# EAGLE library part PROMICRO (library MCU)
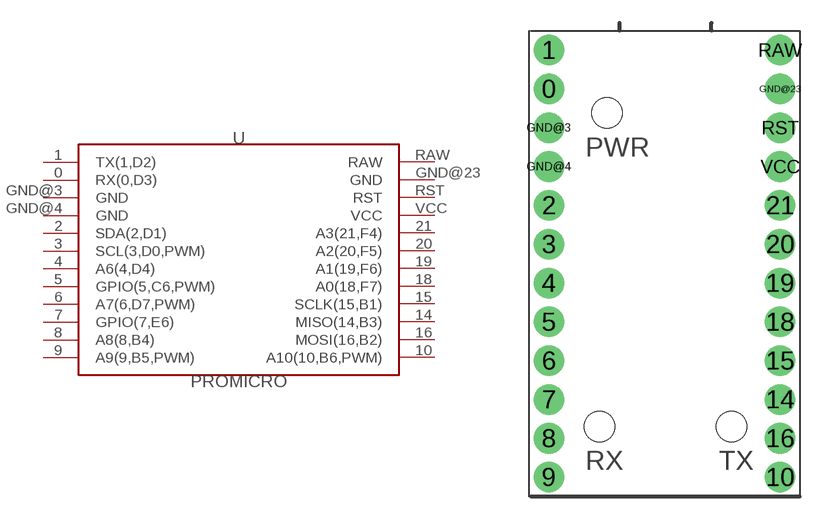
[diagram p9: symbol with the pads of PROMICRO; footprint PROMICRO]

Designator prefix U

## PROMICRO  [PROMICRO]
0  RX(0,D3)
1  TX(1,D2)
2  SDA(2,D1)
3  SCL(3,D0,PWM)
4  A6(4,D4)
5  GPIO(5,C6,PWM)
6  A7(6,D7,PWM)
7  GPIO(7,E6)
8  A8(8,B4)
9  A9(9,B5,PWM)
10  A10(10,B6,PWM)
14  MISO(14,B3)
15  SCLK(15,B1)
16  MOSI(16,B2)
18  A0(18,F7)
19  A1(19,F6)
20  A2(20,F5)
21  A3(21,F4)
GND@3  GND
GND@4  GND
GND@23  GND
RAW  RAW
RST  RST
VCC  VCC

## Footprint PROMICRO (pad centres in mm)
5 pin 0.1" header
drill 1 pad 2: 0 -7.62,11.43; 1 -7.62,13.97; 2 -7.62,3.81; 3 -7.62,1.27; 4 -7.62,-1.27; 5 -7.62,-3.81; 6 -7.62,-6.35; 7 -7.62,-8.89; 8 -7.62,-11.43; 9 -7.62,-13.97; 10 7.5,-13.97; 14 7.5,-8.89; 15 7.5,-6.35; 16 7.5,-11.43; 18 7.5,-3.81; 19 7.5,-1.27; 20 7.5,1.27; 21 7.5,3.81; GND@3 -7.62,8.89; GND@4 -7.62,6.35; GND@23 7.5,11.43; RAW 7.5,13.97; RST 7.5,8.89; VCC 7.5,6.35
hole 2 at -3.82,9.87
hole 2 at -4.318,-10.67
hole 2 at 4.318,-10.67